# EAGLE library part LMZ14202TZE-ADJ_NOPB (library LMZ14202TZE)
Voltage Regulators - Switching Regulators 2A pwr Module w/ 42V Max Input Vtg Source: Datasheet <http://www.ti.com/lit/ds/symlink/lmz14202.pdf>
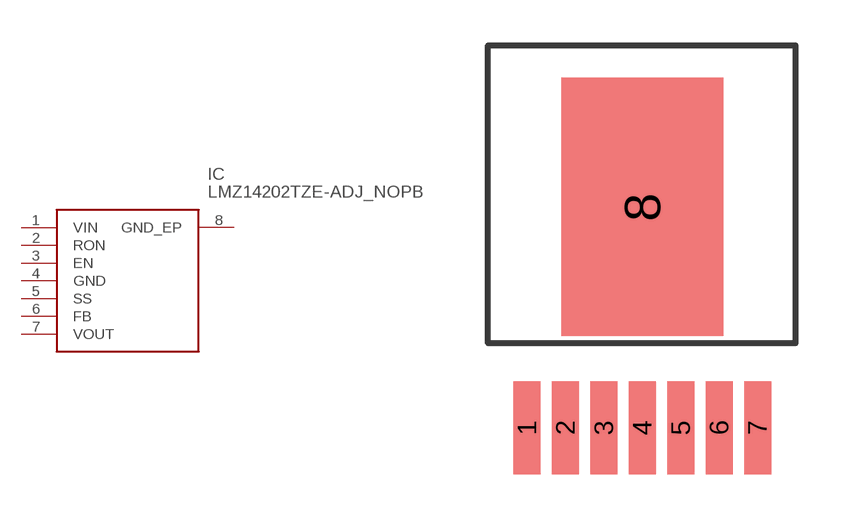
[diagram p0: symbol with the pads of NDW0007A; footprint NDW0007A]

Designator prefix IC

## LMZ14202TZE-ADJ_NOPB (Description: Voltage Regulators - Switching Regulators 2A pwr Module w/ 42V Max Input Vtg; Height: mm; Manufacturer_Name: Texas Instruments; Manufacturer_Part_Number: LMZ14202TZE-ADJ/NOPB; Mouser_Part_Number: 926-LM14202TZEADJNPB; Mouser_Price-Stock: https://www.mouser.com/Search/Refine.aspx?Keyword=926-LM14202TZEADJNPB; RS_Part_Number: 7981195P; RS_Price-Stock: http://uk.rs-online.com/web/p/products/7981195P)  [NDW0007A]
1  VIN  in
2  RON
3  EN
4  GND  pwr
5  SS
6  FB
7  VOUT  out
8  GND_EP  pwr

## Footprint NDW0007A (pad centres in mm)
NDW0007A
smd 0.89 x 3.06: 1 -3.81,0; 2 -2.54,0; 3 -1.27,0; 4 0,0; 5 1.27,0; 6 2.54,0; 7 3.81,0
smd 5.35 x 8.54: 8 0,7.305